# Altium footprint library SolderBrige.PcbLib: 1 footprints
Each footprint in its own frame and in the unit in brackets; x right, y up, seen from the top. Pads: shape width x height; smd on the part's side, far side on the other; paste and mask are expansions set on the pad; w line width, h text height; cw(c..) or ccw(c..) is an arc to the next point about the centre after c.
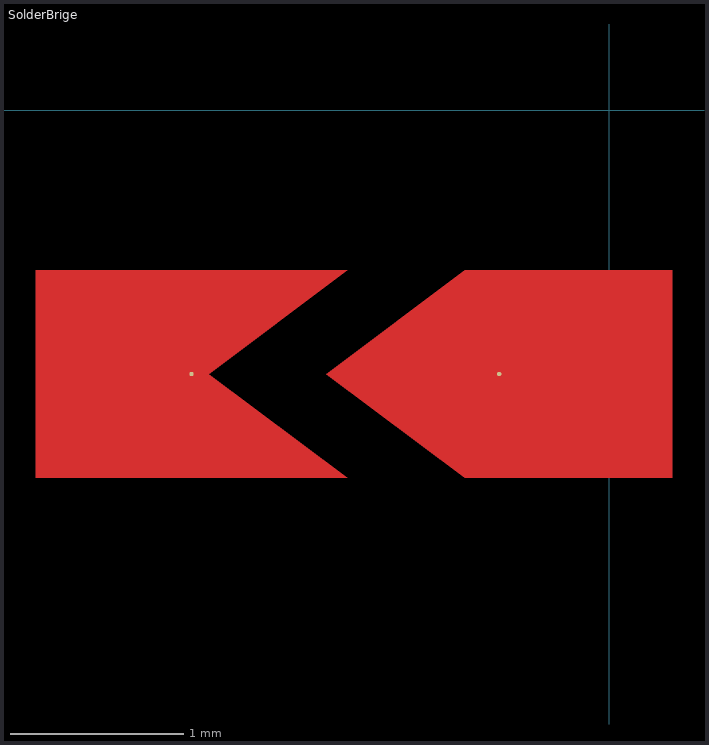
[diagram p0: the footprint, top view; thin cyan lines are the x and y axes]

## SolderBrige [mil]
pads (2):
  round 1 smd: 1(-25,-60) 2(-95,-60)
Top Layer:
  region: -64.37,-60 -32.87,-83.62 14.37,-83.62 14.37,-36.38 -32.87,-36.38
  region: -130.43,-83.62 -130.43,-36.38 -59.57,-36.38 -91.06,-60 -59.57,-83.62